# EAGLE library part HITLETGO_ESP32 (library esp32)
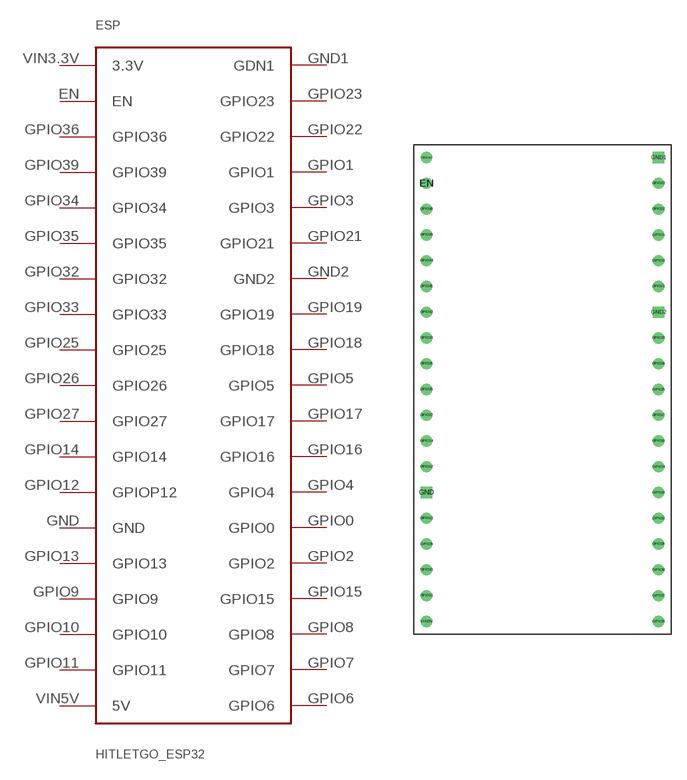
[diagram p0: symbol with the pads of HILETGO_ESP32; footprint HILETGO_ESP32]

Designator prefix ESP

## HITLETGO_ESP32  [HILETGO_ESP32]
EN  EN
GND  GND
GND1  GDN1
GND2  GND2
GPIO0  GPIO0
GPIO1  GPIO1
GPIO2  GPIO2
GPIO3  GPIO3
GPIO4  GPIO4
GPIO5  GPIO5
GPIO6  GPIO6
GPIO7  GPIO7
GPIO8  GPIO8
GPIO9  GPIO9
GPIO10  GPIO10
GPIO11  GPIO11
GPIO12  GPIOP12
GPIO13  GPIO13
GPIO14  GPIO14
GPIO15  GPIO15
GPIO16  GPIO16
GPIO17  GPIO17
GPIO18  GPIO18
GPIO19  GPIO19
GPIO21  GPIO21
GPIO22  GPIO22
GPIO23  GPIO23
GPIO25  GPIO25
GPIO26  GPIO26
GPIO27  GPIO27
GPIO32  GPIO32
GPIO33  GPIO33
GPIO34  GPIO34
GPIO35  GPIO35
GPIO36  GPIO36
GPIO39  GPIO39
VIN3.3V  3.3V
VIN5V  5V

## Footprint HILETGO_ESP32 (pad centres in mm)
drill 0.6: EN -6.35,7.62; GPIO0 16.51,-22.86; GPIO1 16.51,2.54; GPIO2 16.51,-25.4; GPIO3 16.51,0; GPIO4 16.51,-20.32; GPIO5 16.51,-12.7; GPIO6 16.51,-35.56; GPIO7 16.51,-33.02; GPIO8 16.51,-30.48; GPIO9 -6.35,-27.94; GPIO10 -6.35,-30.48; GPIO11 -6.35,-33.02; GPIO12 -6.35,-20.32; GPIO13 -6.35,-25.4; GPIO14 -6.35,-17.78; GPIO15 16.51,-27.94; GPIO16 16.51,-17.78; GPIO17 16.51,-15.24; GPIO18 16.51,-10.16; GPIO19 16.51,-7.62; GPIO21 16.51,-2.54; GPIO22 16.51,5.08; GPIO23 16.51,7.62; GPIO25 -6.35,-10.16; GPIO26 -6.35,-12.7; GPIO27 -6.35,-15.24; GPIO32 -6.35,-5.08; GPIO33 -6.35,-7.62; GPIO34 -6.35,0; GPIO35 -6.35,-2.54; GPIO36 -6.35,5.08; GPIO39 -6.35,2.54; VIN3.3V -6.35,10.16; VIN5V -6.35,-35.56
drill 0.6 square: GND -6.35,-22.86; GND1 16.51,10.16; GND2 16.51,-5.08